# Altium footprint library UBCSolar.PCBLIB: 94 footprints (part 5 of 6)
Each footprint in its own frame and in the unit in brackets; x right, y up, seen from the top. Pads: shape width x height; smd on the part's side, far side on the other; paste and mask are expansions set on the pad; w line width, h text height; cw(c..) or ccw(c..) is an arc to the next point about the centre after c.
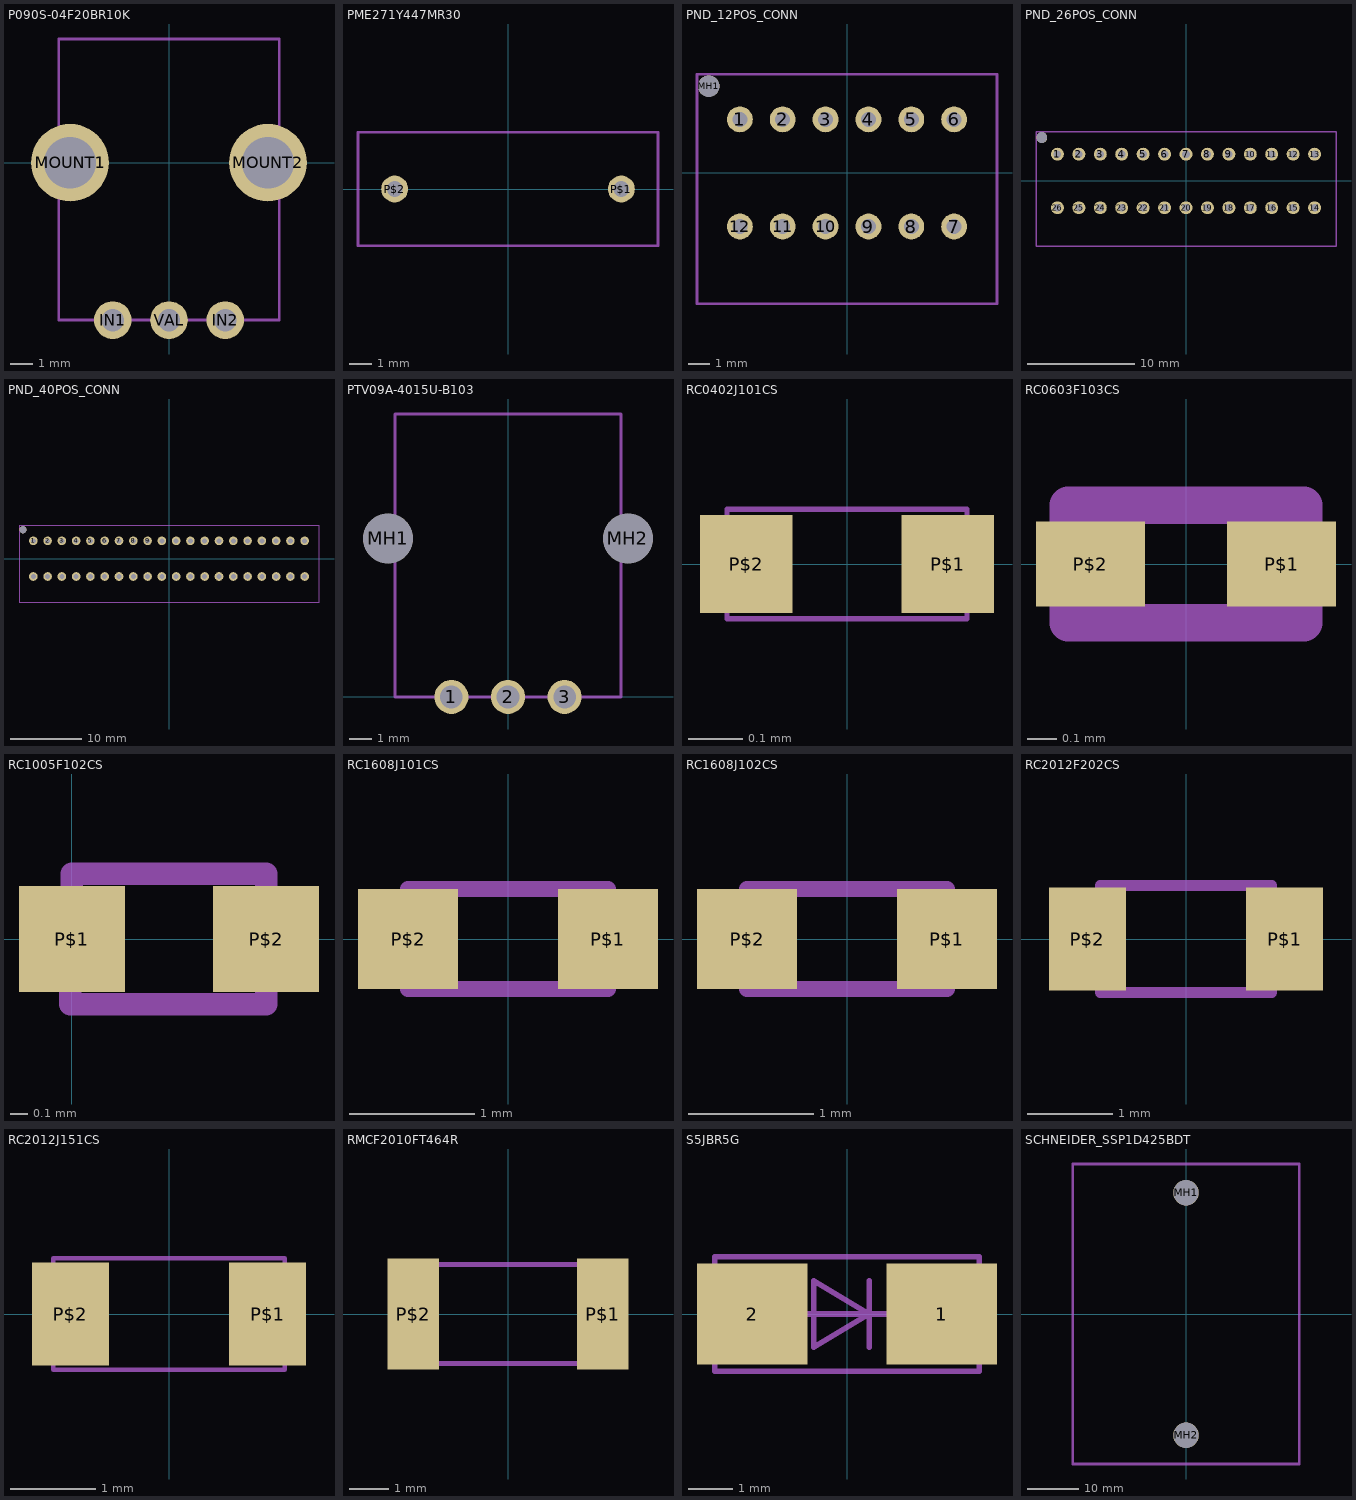
[diagram p4: the footprints below, top view; thin cyan lines are the x and y axes]

## P090S-04F20BR10K [mil]
pads (5):
  round 66 / inner round 60 / far side round 66 hole 39.37: IN1(-98.43,-275.59) IN2(98.43,-275.59) VAL(0,-275.59)
  round 135.82 / inner round 60 / far side round 135.82 hole 90.55: MOUNT1(-173.23,0) MOUNT2(173.23,0)
Top Assembly:
  lines w5: -192.91,-275.59 192.91,-275.59 192.91,216.54 -192.91,216.54 -192.91,-275.59

## PME271Y447MR30 [mil]
pads (2):
  round 47.56 / inner round 60 / far side round 47.56 hole 27.56: P$1(200.79,0) P$2(-200.79,0)
Top Assembly:
  lines w5: -265.75,-100.39 265.75,-100.39 265.75,100.39 -265.75,100.39 -265.75,-100.39

## PND_12POS_CONN [mm]
pads (13):
  round 1.208 / inner round 1.524 / far side round 1.208 hole 0.7: 1(-5,2.5) 2(-3,2.5) 3(-1,2.5) 4(1,2.5) 5(3,2.5) 6(5,2.5) 7(5,-2.5) 8(3,-2.5) 9(1,-2.5) 10(-1,-2.5) 11(-3,-2.5) 12(-5,-2.5)
  round 1 hole 1 unplated: MH1(-6.45,4.05)
Top Assembly:
  lines w0.127: -7,-6.1 7,-6.1 7,4.6 -7,4.6 -7,-6.1

## PND_26POS_CONN [mm]
pads (27):
  round 1.208 / inner round 1.524 / far side round 1.208 hole 0.7: 1(-12,2.5) 2(-10,2.5) 3(-8,2.5) 4(-6,2.5) 5(-4,2.5) 6(-2,2.5) 7(0,2.5) 8(2,2.5) 9(4,2.5) 10(6,2.5) 11(8,2.5) 12(10,2.5) 13(12,2.5) 14(12,-2.5) 15(10,-2.5) 16(8,-2.5) 17(6,-2.5) 18(4,-2.5) 19(2,-2.5) 20(0,-2.5) 21(-2,-2.5) 22(-4,-2.5) 23(-6,-2.5) 24(-8,-2.5) 25(-10,-2.5) 26(-12,-2.5)
  round 1 hole 1 unplated: MH1(-13.45,4.05)
Top Assembly:
  lines w0.127: -14,-6.1 -14,4.6 14,4.6 14,-6.1 -14,-6.1

## PND_40POS_CONN [mm]
pads (41):
  round 1.208 / inner round 1.524 / far side round 1.208 hole 0.7: 1(-19,2.5) 2(-17,2.5) 3(-15,2.5) 4(-13,2.5) 5(-11,2.5) 6(-9,2.5) 7(-7,2.5) 8(-5,2.5) 9(-3,2.5) 10(-1,2.5) 11(1,2.5) 12(3,2.5) 13(5,2.5) 14(7,2.5) 15(9,2.5) 16(11,2.5) 17(13,2.5) 18(15,2.5) 19(17,2.5) 20(19,2.5) 21(19,-2.5) 22(17,-2.5) 23(15,-2.5) 24(13,-2.5) 25(11,-2.5) 26(9,-2.5) 27(7,-2.5) 28(5,-2.5) 29(3,-2.5) 30(1,-2.5) 31(-1,-2.5) 32(-3,-2.5) 33(-5,-2.5) 34(-7,-2.5) 35(-9,-2.5) 36(-11,-2.5) 37(-13,-2.5) 38(-15,-2.5) 39(-17,-2.5) 40(-19,-2.5)
  round 1 hole 1 unplated: MH1(-20.45,4.05)
Top Assembly:
  lines w0.127: -21,-6.1 21,-6.1 21,4.6 -21,4.6 -21,-6.1

## PTV09A-4015U-B103 [mm]
pads (5):
  round 1.508 / inner round 1.524 / far side round 1.508 hole 1: 1(-2.5,0) 2(0,0) 3(2.5,0)
  round 2.2 hole 2.2 unplated: MH1(-5.3,7) MH2(5.3,7)
Top Assembly:
  lines w0.127: -5,0 5,0 5,12.5 -5,12.5 -5,0

## RC0402J101CS [mil]
pads (2):
  rect 6.69x7.09 smd: P$1(7.28,0) P$2(-7.28,0)
Top Assembly:
  lines w0.39: -8.66,-3.94 -8.66,3.94 8.66,3.94 8.66,-3.94 -8.66,-3.94

## RC0603F103CS [mil]
pads (2):
  rect 14.57x11.42 smd: P$1(12.8,0) P$2(-12.8,0)
Top Assembly:
  lines w5: -15.75,-7.87 -15.75,7.87 15.75,7.87 15.75,-7.87 -15.75,-7.87

## RC1005F102CS [mil]
pads (2):
  rect 23.62x23.62 smd: P$1(0,0) P$2(43.31,0)
Top Assembly:
  lines w5: -0.39,-14.57 43.31,-14.57 43.31,14.57 0,14.57 0,0 -0.39,0 -0.39,-14.57

## RC1608J101CS [mil]
pads (2):
  rect 31.5x31.5 smd: P$1(31.5,0) P$2(-31.5,0)
Top Assembly:
  lines w5: -31.5,-15.75 -31.5,15.75 31.5,15.75 31.5,-15.75 -31.5,-15.75

## RC1608J102CS [mil]
pads (2):
  rect 31.5x31.5 smd: P$1(31.5,0) P$2(-31.5,0)
Top Assembly:
  lines w5: -31.5,-15.75 -31.5,15.75 31.5,15.75 31.5,-15.75 -31.5,-15.75

## RC2012F202CS [mil]
pads (2):
  rect 35.43x47.24 smd: P$1(45.28,0) P$2(-45.28,0)
Top Assembly:
  lines w5: -39.37,-24.61 39.37,-24.61 39.37,24.61 -39.37,24.61 -39.37,-24.61

## RC2012J151CS [mil]
pads (2):
  rect 35.43x47.24 smd: P$1(45.28,0) P$2(-45.28,0)
Top Assembly:
  lines w1.97: -53.15,-25.59 -53.15,25.59 53.15,25.59 53.15,-25.59 -53.15,-25.59

## RMCF2010FT464R [mil]
pads (2):
  rect 51.18x110.24 smd: P$1(94.49,0) P$2(-94.49,0)
Top Assembly:
  lines w5: -98.43,-49.21 98.43,-49.21 98.43,49.21 -98.43,49.21 -98.43,-49.21

## S5JBR5G [mil]
pads (2):
  rect 98.43x90.55 smd: 1(84.65,0) 2(-84.65,0)
Top Assembly:
  lines w5: -98.43,0 19.69,0 ; 19.69,-29.53 19.69,0 ; 19.69,29.53 19.69,0 ; 98.43,0 19.69,0 ; 19.69,0 -29.53,29.53 -29.53,-29.53 19.69,0 ; -118.11,-51.18 -118.11,51.18 118.11,51.18 118.11,-51.18 -118.11,-51.18

## SCHNEIDER_SSP1D425BDT [mm]
pads (2):
  round 5 hole 5 unplated: MH1(0,23.8) MH2(0,-23.8)
Top Assembly:
  lines w0.5: -22.23,-29.445 22.23,-29.445 22.23,29.445 -22.23,29.445 -22.23,-29.445